# EAGLE library part PIC18F25K20-I/SO (library 029000100  -  gKEagleLibrary)
Flash Microcontrollers
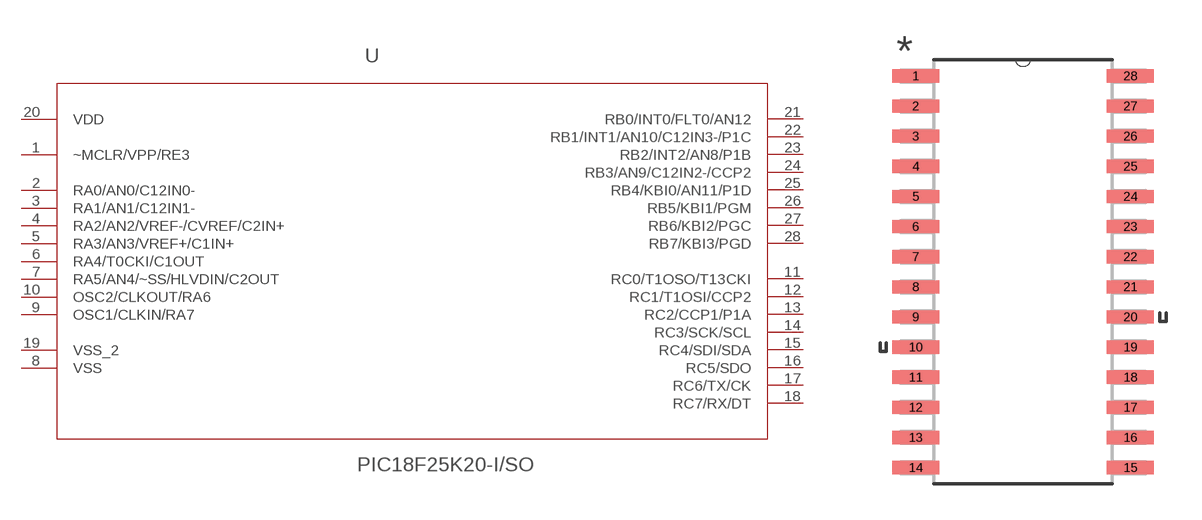
[diagram p43: symbol with the pads of SOIC127P1030X265-28N; footprint SOIC127P1030X265-28N]

Designator prefix -

## PIC18F25K20-I/SO (DESCRIPTION: Flash Microcontrollers; MPN: PIC18F25K20-I/SO; OC_FARNELL: 1439577; OC_NEWARK: 88K5986; PACKAGE: SOIC-28; SUPPLIER: Microchip)  [SOIC127P1030X265-28N]
1  ~MCLR/VPP/RE3  in
2  RA0/AN0/C12IN0-
3  RA1/AN1/C12IN1-
4  RA2/AN2/VREF-/CVREF/C2IN+
5  RA3/AN3/VREF+/C1IN+
6  RA4/T0CKI/C1OUT
7  RA5/AN4/~SS/HLVDIN/C2OUT
8  VSS  pwr
9  OSC1/CLKIN/RA7
10  OSC2/CLKOUT/RA6
11  RC0/T1OSO/T13CKI
12  RC1/T1OSI/CCP2
13  RC2/CCP1/P1A
14  RC3/SCK/SCL
15  RC4/SDI/SDA
16  RC5/SDO
17  RC6/TX/CK
18  RC7/RX/DT
19  VSS_2  pwr
20  VDD  pwr
21  RB0/INT0/FLT0/AN12
22  RB1/INT1/AN10/C12IN3-/P1C
23  RB2/INT2/AN8/P1B
24  RB3/AN9/C12IN2-/CCP2
25  RB4/KBI0/AN11/P1D
26  RB5/KBI1/PGM
27  RB6/KBI2/PGC
28  RB7/KBI3/PGD

## Footprint SOIC127P1030X265-28N (pad centres in mm)
smd 1.981 x 0.559: 1 -4.521,8.255; 2 -4.521,6.985; 3 -4.521,5.715; 4 -4.521,4.445; 5 -4.521,3.175; 6 -4.521,1.905; 7 -4.521,0.635; 8 -4.521,-0.635; 9 -4.521,-1.905; 10 -4.521,-3.175; 11 -4.521,-4.445; 12 -4.521,-5.715; 13 -4.521,-6.985; 14 -4.521,-8.255; 15 4.521,-8.255; 16 4.521,-6.985; 17 4.521,-5.715; 18 4.521,-4.445; 19 4.521,-3.175; 20 4.521,-1.905; 21 4.521,-0.635; 22 4.521,0.635; 23 4.521,1.905; 24 4.521,3.175; 25 4.521,4.445; 26 4.521,5.715; 27 4.521,6.985; 28 4.521,8.255